# EAGLE library part 30VA (library Traficon)
TRANSFORMER 1 primary windig + 1 primary winding with tap, 2 secondary windings, core ring
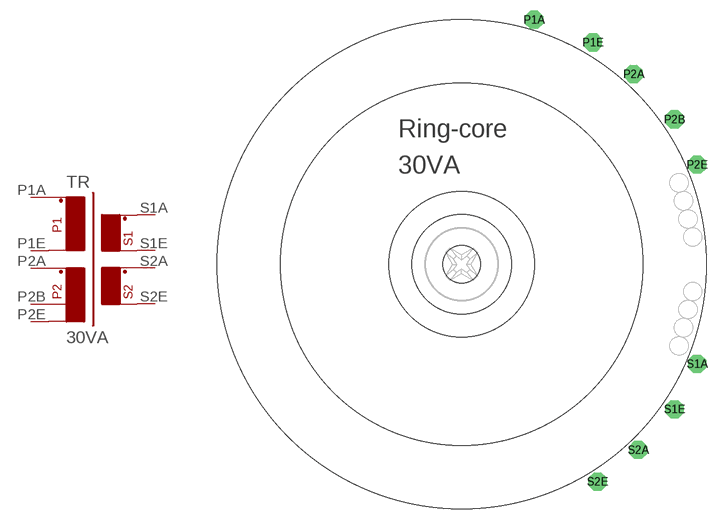
[diagram p66: symbol with the pads of 30VA; footprint 30VA]

Designator prefix TR

## 30VA  [30VA]
P1A  P1A  pas
P1E  P1E  pas
P2A  P2A  pas
P2B  P2B  pas
P2E  P2E  pas
S1A  S1A  pas
S1E  S1E  pas
S2A  S2A  pas
S2E  S2E  pas

## Footprint 30VA (pad centres in mm)
TRANSFORMER 1 primary windig + 1 primary winding with tap, 2 secondary windings, core ring
drill 1.016 pad 2.54 octagon: P1A 10.16,34.29; P1E 18.415,31.115; P2A 24.13,26.67; P2B 29.845,20.32; P2E 33.02,13.97; S1A 33.02,-13.97; S1E 29.845,-20.32; S2A 24.765,-26.035; S2E 19.05,-30.48
hole 5.309 at 0,0